# Altium schematic symbol library MBR0520LT1G.SchLib: 1 symbol
Pins are listed as number, name and electrical type; pins without a type are passive.

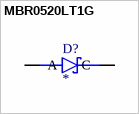
[diagram p0: symbol MBR0520LT1G]

## MBR0520LT1G
designator D?
Diode Schottky 20 V 500mA Surface Mount SOD-123
pins: A, C